# Altium footprint library tqfp.PcbLib: 1 footprints
Each footprint in its own frame and in the unit in brackets; x right, y up, seen from the top. Pads: shape width x height; smd on the part's side, far side on the other; paste and mask are expansions set on the pad; w line width, h text height; cw(c..) or ccw(c..) is an arc to the next point about the centre after c.
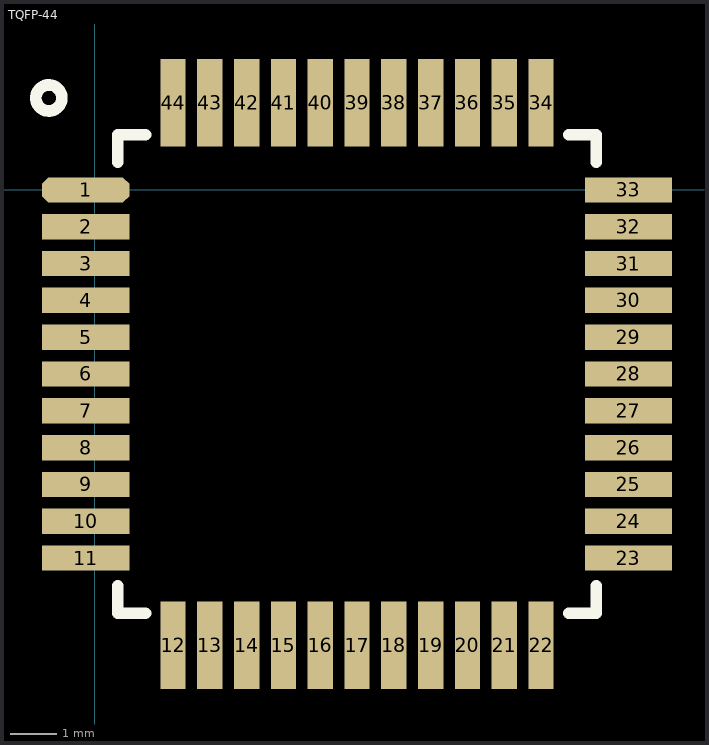
[diagram p0: the footprint, top view; thin cyan lines are the x and y axes]

## TQFP-44 [mm]
height 1
pads (44):
  oct 1.9x0.55 smd: 1(-0.2,0)
  rect 1.9x0.55 smd: 2(-0.2,-0.8) 3(-0.2,-1.6) 4(-0.2,-2.4) 5(-0.2,-3.2) 6(-0.2,-4) 7(-0.2,-4.8) 8(-0.2,-5.6) 9(-0.2,-6.4) 10(-0.2,-7.2) 11(-0.2,-8) 23(11.6,-8) 24(11.6,-7.2) 25(11.6,-6.4) 26(11.6,-5.6) 27(11.6,-4.8) 28(11.6,-4) 29(11.6,-3.2) 30(11.6,-2.4) 31(11.6,-1.6) 32(11.6,-0.8) 33(11.6,0)
  rect 0.55x1.9 smd: 12(1.7,-9.9) 13(2.5,-9.9) 14(3.3,-9.9) 15(4.1,-9.9) 16(4.9,-9.9) 17(5.7,-9.9) 18(6.5,-9.9) 19(7.3,-9.9) 20(8.1,-9.9) 21(8.9,-9.9) 22(9.7,-9.9) 34(9.7,1.9) 35(8.9,1.9) 36(8.1,1.9) 37(7.3,1.9) 38(6.5,1.9) 39(5.7,1.9) 40(4.9,1.9) 41(4.1,1.9) 42(3.3,1.9) 43(2.5,1.9) 44(1.7,1.9)
Top Overlay:
  circle w0.254: c-1,2 r0.283
  lines w0.254: 0.5,-8.6 0.5,-9.2 1.1,-9.2 ; 0.5,0.6 0.5,1.2 1.1,1.2 ; 10.3,-9.2 10.9,-9.2 10.9,-8.6 ; 10.3,1.2 10.9,1.2 10.9,0.6